# Altium footprint library CREE-LED.PcbLib: 1 footprints
Each footprint in its own frame and in the unit in brackets; x right, y up, seen from the top. Pads: shape width x height; smd on the part's side, far side on the other; paste and mask are expansions set on the pad; w line width, h text height; cw(c..) or ccw(c..) is an arc to the next point about the centre after c.
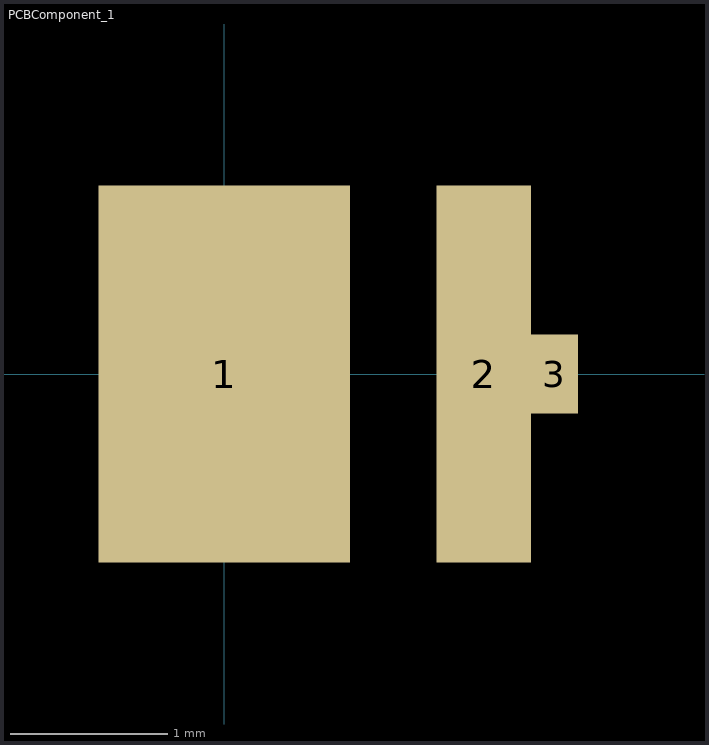
[diagram p0: the footprint, top view; thin cyan lines are the x and y axes]

## PCBComponent_1 [mm]
pads (3):
  rect 1.6x2.4 smd: 1(0,0)
  rect 0.6x2.4 smd: 2(1.65,0)
  rect 0.3x0.5 smd: 3(2.1,0)